# Altium footprint library smdchip.PcbLib: 57 footprints (part 1 of 4)
Each footprint in its own frame and in the unit in brackets; x right, y up, seen from the top. Pads: shape width x height; smd on the part's side, far side on the other; paste and mask are expansions set on the pad; w line width, h text height; cw(c..) or ccw(c..) is an arc to the next point about the centre after c.
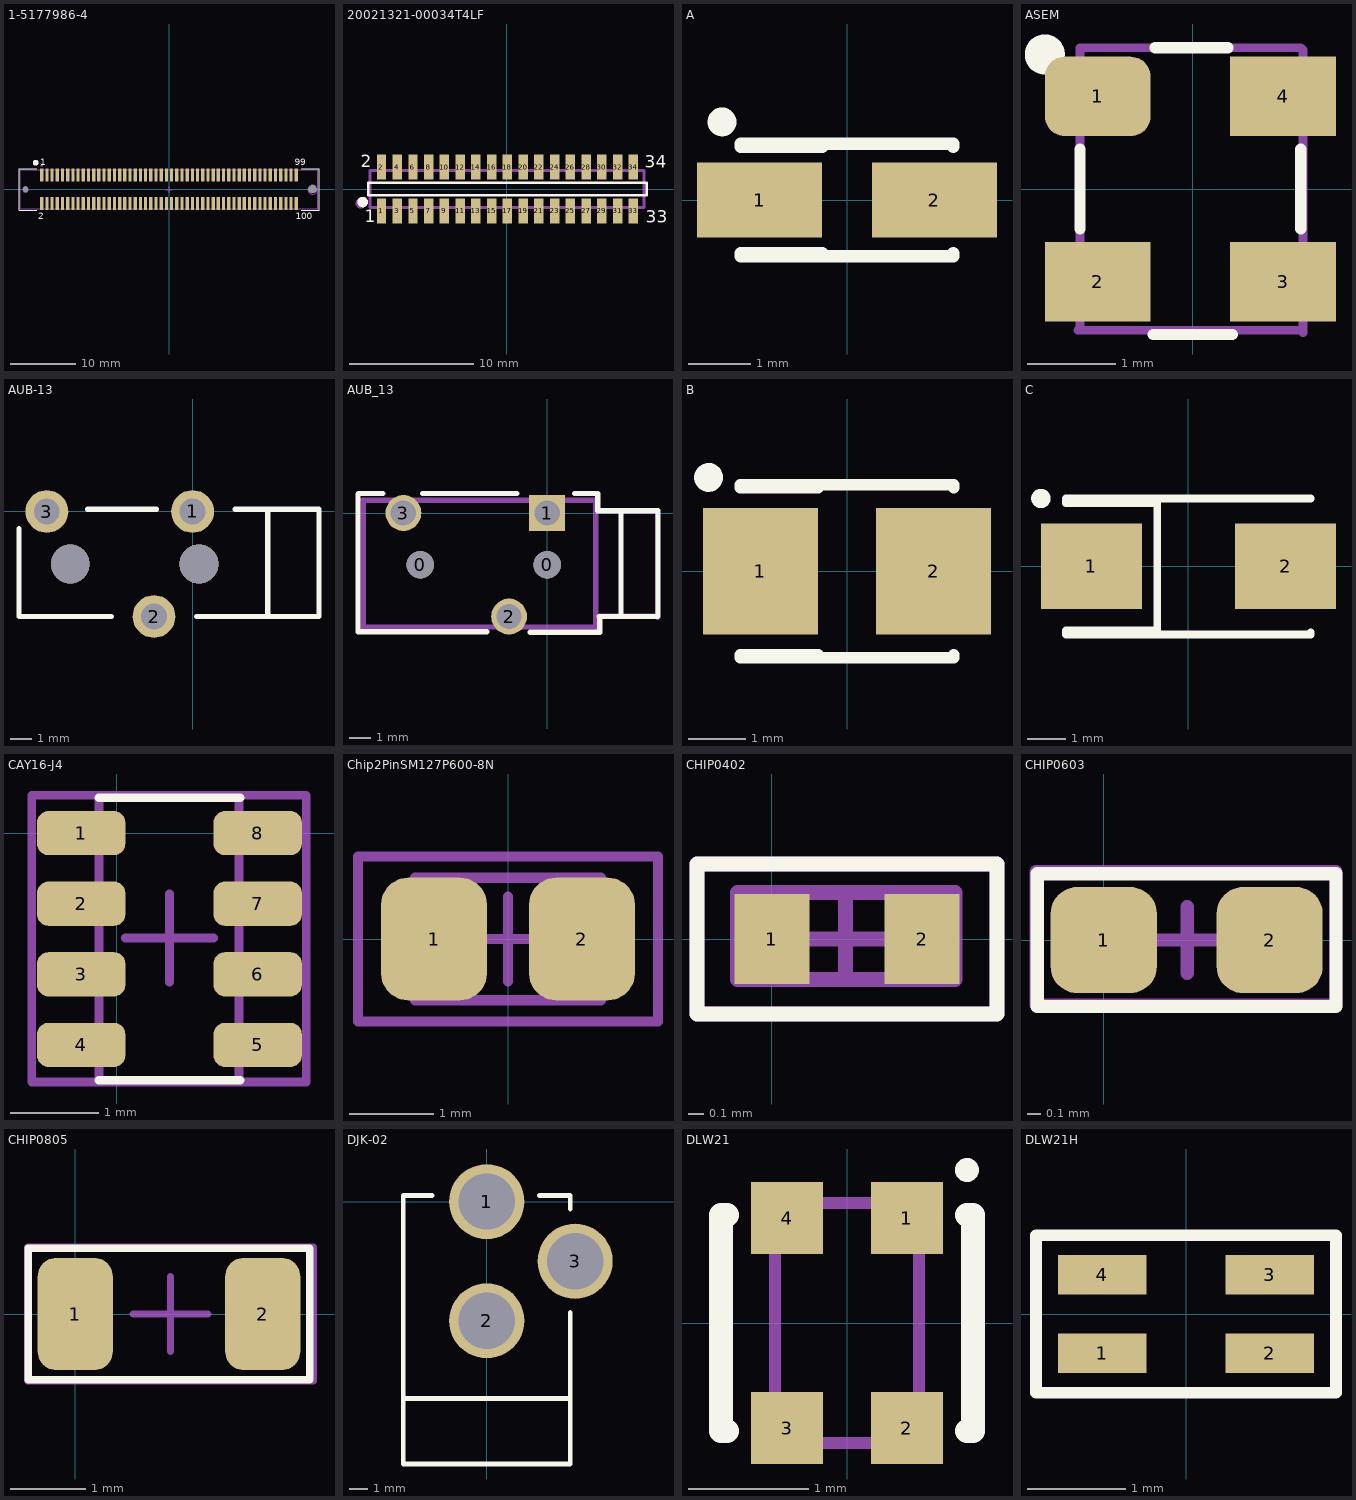
[diagram p0: the footprints below, top view; thin cyan lines are the x and y axes]

## 1-5177986-4 [mm]
height 5.6
pads (100):
  rect 0.5x2 smd: 1(-19.6,2.2) 2(-19.6,-2.2) 3(-18.8,2.2) 4(-18.8,-2.2) 5(-18,2.2) 6(-18,-2.2) 7(-17.2,2.2) 8(-17.2,-2.2) 9(-16.4,2.2) 10(-16.4,-2.2) 11(-15.6,2.2) 12(-15.6,-2.2) 13(-14.8,2.2) 14(-14.8,-2.2) 15(-14,2.2) 16(-14,-2.2) 17(-13.2,2.2) 18(-13.2,-2.2) 19(-12.4,2.2) 20(-12.4,-2.2) 21(-11.6,2.2) 22(-11.6,-2.2) 23(-10.8,2.2) 24(-10.8,-2.2) 25(-10,2.2) 26(-10,-2.2) 27(-9.2,2.2) 28(-9.2,-2.2) 29(-8.4,2.2) 30(-8.4,-2.2) 31(-7.6,2.2) 32(-7.6,-2.2) 33(-6.8,2.2) 34(-6.8,-2.2) 35(-6,2.2) 36(-6,-2.2) 37(-5.2,2.2) 38(-5.2,-2.2) 39(-4.4,2.2) 40(-4.4,-2.2) 41(-3.6,2.2) 42(-3.6,-2.2) 43(-2.8,2.2) 44(-2.8,-2.2) 45(-2,2.2) 46(-2,-2.2) 47(-1.2,2.2) 48(-1.2,-2.2) 49(-0.4,2.2) 50(-0.4,-2.2) 51(0.4,2.2) 52(0.4,-2.2) 53(1.2,2.2) 54(1.2,-2.2) 55(2,2.2) 56(2,-2.2) 57(2.8,2.2) 58(2.8,-2.2) 59(3.6,2.2) 60(3.6,-2.2) 61(4.4,2.2) 62(4.4,-2.2) 63(5.2,2.2) 64(5.2,-2.2) 65(6,2.2) 66(6,-2.2) 67(6.8,2.2) 68(6.8,-2.2) 69(7.6,2.2) 70(7.6,-2.2) 71(8.4,2.2) 72(8.4,-2.2) 73(9.2,2.2) 74(9.2,-2.2) 75(10,2.2) 76(10,-2.2) 77(10.8,2.2) 78(10.8,-2.2) 79(11.6,2.2) 80(11.6,-2.2) 81(12.4,2.2) 82(12.4,-2.2) 83(13.2,2.2) 84(13.2,-2.2) 85(14,2.2) 86(14,-2.2) 87(14.8,2.2) 88(14.8,-2.2) 89(15.6,2.2) 90(15.6,-2.2) 91(16.4,2.2) 92(16.4,-2.2) 93(17.2,2.2) 94(17.2,-2.2) 95(18,2.2) 96(18,-2.2) 97(18.8,2.2) 98(18.8,-2.2) 99(19.6,2.2) 100(19.6,-2.2)
via 22.1,0 diameter 1.2 hole 1.2
via -22.1,0 diameter 0.8 hole 0.8
Top Overlay:
  circle w0.44: c-20.524,4.1 r0.224
  lines w0.1: -20.4,-3.2 -23.1,-3.2 -23.1,3.2 -20.4,3.2 ; 20.4,-3.2 23.1,-3.2 23.1,3.2 20.4,3.2
  text "99" at 19.4,3.7 h1
  text "100" at 19.5,-4.6 h1
  text "2" at -20.1,-4.6 h1
  text "1" at -19.8,3.7 h1
Mechanical 13:
  circle w0.1: c22.1,-0.05 r0.7
  circle w0.1: c-22.1,-0.05 r0.4
Mechanical 15:
  circle w0.254: c-19.6,3.7 r0.1
  lines w0.1: -20.8,-3 -22.9,-3 ; -20.8,3 -22.9,3 ; -0.492,-0.05 0.508,-0.05 ; 0.008,-0.55 0.008,0.45 ; 20.8,-3 22.9,-3 ; 20.8,3 22.9,3 ; -22.9,-3 -22.9,3 ; -22.9,-3 22.9,-3 ; -22.9,3 22.9,3 ; 22.9,-3 22.9,3
3D body: height 5.6, standoff 0, extent -23.1,-3.3 23.1,3.1
3D body: height 1, standoff -0.5, extent 21.4,-0.75 22.8,0.65
3D body: height 1, standoff -0.5, extent -22.8,-0.725 -21.4,0.675

## 20021321-00034T4LF [mm] "Connector; Socket; 17x2 Position"
height 4.5
pads (34):
  rect 0.76x2.05 smd paste+0: 1(-10.11,-1.775) 2(-10.11,1.775) 3(-8.84,-1.775) 4(-8.84,1.775) 5(-7.57,-1.775) 6(-7.57,1.775) 7(-6.3,-1.775) 8(-6.3,1.775) 9(-5.03,-1.775) 10(-5.03,1.775) 11(-3.76,-1.775) 12(-3.76,1.775) 13(-2.49,-1.775) 14(-2.49,1.775) 15(-1.22,-1.775) 16(-1.22,1.775) 17(0.05,-1.775) 18(0.05,1.775) 19(1.32,-1.775) 20(1.32,1.775) 21(2.59,-1.775) 22(2.59,1.775) 23(3.86,-1.775) 24(3.86,1.775) 25(5.13,-1.775) 26(5.13,1.775) 27(6.4,-1.775) 28(6.4,1.775) 29(7.67,-1.775) 30(7.67,1.775) 31(8.94,-1.775) 32(8.94,1.775) 33(10.21,-1.775) 34(10.21,1.775)
Top Overlay:
  circle w0.4: c-11.624,-1.05 r0.224
  lines w0.2: -11.176,-0.508 -11.176,0.508 11.303,0.508 11.303,-0.508 -11.176,-0.508
  text "33" at 11.2,-2.725 h1
  text "1" at -11.475,-2.7 h1
  text "34" at 11.15,1.725 h1
  text "2" at -11.8,1.75 h1
Mechanical 15:
  circle w0.4: c-11.781,-1.143 r0.224
  lines w0.254: 11.03,-1.5 -11.03,-1.5 -11.03,1.5 11.03,1.5 ; 11.07,-1.5 11.07,1.5

## A [mm] "Capacitor, SM Tantalum; Body 3.2 x 1.6 mm (LxW typ)"
height 1.8
pads (2):
  rect 2x1.2 smd: 1(-1.4,0) 2(1.4,0)
Top Overlay:
  circle w0.254: c-2,1.25 r0.103
  lines w0.2: -1.7,-0.9 1.7,-0.9 1.7,-0.85 ; -1.7,-0.85 -0.4,-0.85 ; -1.7,0.85 -0.4,0.85 ; -1.7,0.9 1.7,0.9 1.7,0.85

## ASEM [mm]
height 0.85
pads (4):
  rrect50% 1.2x0.9 smd mask+0: 1(-1.075,1.05)
  rect 1.2x0.9 smd mask+0: 2(-1.075,-1.05) 3(1.025,-1.05) 4(1.025,1.05)
Top Overlay:
  circle w0.254: c-1.675,1.525 r0.1
  lines w0.127: -1.275,-0.45 -1.275,0.45 ; -0.45,-1.65 0.45,-1.65 ; -0.425,1.6 0.4,1.6 ; 1.225,-0.45 1.225,0.45
Mechanical 15:
  lines w0.1: -1.275,-1.6 -1.275,1.6 1.225,1.6 1.25,1.575 1.25,-1.625 1.225,-1.6 -1.3,-1.6 -1.275,-1.575
3D body: height 0.85, standoff 0, extent -1.275,-1.625 1.225,1.575

## AUB-13 [mm] "3.5mm audio jack, PTH on pcb, 3 contacts"
height 5
pads (3):
  round 2 hole 1.2: 1(0,0) 2(-1.8,-4.9) 3(-6.8,0)
via 0.3,-2.45 diameter 1.8 hole 1.8
via -5.7,-2.45 diameter 1.8 hole 1.8
Top Overlay:
  lines w0.254: -8.1,-0.8 -8.1,-4.9 -3.8,-4.9 ; -4.9,0.1 -1.7,0.1 ; 0.2,-4.9 5.9,-4.9 ; 2,0.1 5.9,0.1 5.9,-4.9 ; 3.5,0.1 3.5,-4.9 5.9,-4.9
3D body: height 5, standoff 0, extent -8.125,-4.975 5.925,0.075

## AUB_13 [mm] "3.5mm audio jack, PTH on pcb, 3 contacts"
height 5
pads (5):
  round 1.3 hole 1.3 unplated: 0(-6,-2.45) 0(0,-2.45)
  rect 1.7x1.7 hole 1.2: 1(0,0)
  round 1.7 hole 1.2: 2(-1.8,-4.9) 3(-6.8,0)
Top Overlay:
  lines w0.254: -7.775,0.925 -8.925,0.925 -8.95,0.9 -8.95,-5.625 -2.85,-5.625 ; -5.9,0.925 -1.425,0.925 ; -0.8,-5.65 2.5,-5.65 2.5,-4.925 ; 1.3,0.925 2.4,0.925 2.4,0.1 5.25,0.1 5.25,-4.9 3.5,-4.9 3.5,0.1 ; 2.475,-4.9 5.225,-4.9
Mechanical 15:
  lines w0.254: -8.725,0.6 2.275,0.6 ; -8.7,-5.4 -8.7,0.6 ; -8.675,-5.375 2.275,-5.401 ; 2.3,-5.4 2.3,0.6 ; 2.3,-4.875 5.225,-4.875 ; 2.3,0.1 5.2,0.1 ; 5.225,-4.925 5.225,0.05
3D body: height 5, standoff 0, extent -8.725,-5.375 5.2,0.6

## B [mm] "Capacitor, SM Tantalum; Body 3.5 x 2.8 mm (LxW typ)"
height 2.1
pads (2):
  rect 2x2.2 smd: 1(-1.5,0) 2(1.5,0)
Top Overlay:
  circle w0.25: c-2.4,1.625 r0.125
  lines w0.2: -1.85,-1.5 1.85,-1.5 1.85,-1.45 ; -1.85,-1.45 -0.5,-1.45 ; -1.85,1.45 -0.5,1.45 ; -1.85,1.5 1.85,1.5 1.85,1.45

## C [mm] "Capacitor, SM Tantalum; Body 6.0 x 3.2 mm (LxW typ)"
height 2.8
pads (2):
  rect 2.6x2.2 smd: 1(-2.5,0) 2(2.5,0)
Top Overlay:
  circle w0.25: c-3.8,1.75 r0.125
  lines w0.2: -3.15,-1.7 -3.15,-1.75 3.15,-1.75 3.15,-1.7 ; -3.15,-1.65 -0.9,-1.65 ; -3.15,1.625 -0.9,1.625 -0.775,1.75 3.15,1.75 -3.15,1.75 -3.15,1.7 ; -0.8,-1.75 -0.8,1.75

## CAY16-J4 [mm]
height 0.6
pads (8):
  rrect50% 1x0.5 smd: 1(-0.4,0) 2(-0.4,-0.8) 3(-0.4,-1.6) 4(-0.4,-2.4) 5(1.6,-2.4) 6(1.6,-1.6) 7(1.6,-0.8) 8(1.6,0)
Top Overlay:
  lines w0.1: -0.2,-2.8 1.4,-2.8 ; -0.2,0.4 1.4,0.4
Mechanical 13:
  lines w0.1: -0.2,-2.81 1.39,-2.81 1.39,0.43 -0.2,0.43 -0.2,-2.81
Mechanical 15:
  lines w0.1: 0.1,-1.19 1.1,-1.19 ; 0.6,-1.69 0.6,-0.69 ; -0.96,-2.82 2.15,-2.82 2.15,0.43 -0.96,0.43 -0.96,-2.82
3D body: height 0.7, standoff 0.1, extent -0.2,-2.81 1.39,0.43

## Chip2PinSM127P600-8N [mm]
height 1.05
pads (2):
  rrect50% 1.25x1.45 smd: 1(-0.875,0) 2(0.875,0)
Mechanical 13:
  lines w0.12: -1.1,-0.725 1.1,-0.725 1.1,0.725 -1.1,0.725 -1.1,-0.725
Mechanical 15:
  lines w0.12: -0.5,0 0.5,0 ; 0,-0.5 0,0.5 ; -1.775,-0.975 1.775,-0.975 1.775,0.975 -1.775,0.975 -1.775,-0.975
3D body: height 1.05, standoff 0, extent -1.1,-0.725 1.1,0.725

## CHIP0402 [mm]
height 0.5
pads (2):
  rect 0.5x0.6 smd: 1(0,0) 2(1,0)
Top Overlay:
  lines w0.1: -0.5,-0.5 -0.5,0.5 1.5,0.5 1.5,-0.5 -0.5,-0.5
Mechanical 13:
  lines w0.1: -0.23,-0.27 -0.23,0.31 1.22,0.31 1.22,-0.27 -0.23,-0.27
Mechanical 15:
  lines w0.1: 0.24,0 0.74,0 ; 0.49,-0.25 0.49,0.25 ; -0.5,-0.5 -0.5,0.5 1.5,0.5 1.5,-0.5 -0.5,-0.5
3D body: height 0.5, standoff 0.1, extent -0.23,-0.27 1.22,0.31

## CHIP0603 [mm]
height 0.7
pads (2):
  rrect50% 0.8x0.8 smd: 1(0,0) 2(1.25,0)
Top Overlay:
  lines w0.1: -0.5,-0.5 1.75,-0.5 1.75,0.5 -0.5,0.5 -0.5,-0.5
Mechanical 13:
  lines w0.1: -0.51,-0.49 1.75,-0.49 1.75,0.51 -0.51,0.51 -0.51,-0.49
Mechanical 15:
  lines w0.1: 0.38,0 0.88,0 ; 0.63,-0.25 0.63,0.25 ; -0.51,-0.49 1.75,-0.49 1.75,0.516 -0.51,0.516 -0.51,-0.49
3D body: height 0.7, standoff 0.1, extent -0.525,-0.5 1.75,0.51

## CHIP0805 [mm]
height 1
pads (2):
  rrect50% 1x1.5 smd: 1(0,0) 2(2.5,0)
Top Overlay:
  lines w0.1: -0.625,-0.875 -0.625,0.875 3.125,0.875 3.125,-0.875 -0.625,-0.875
Mechanical 13:
  lines w0.1: -0.635,-0.889 3.175,-0.889 3.175,0.889 -0.635,0.889 -0.635,-0.889
Mechanical 15:
  lines w0.1: 0.77,0 1.77,0 ; 1.27,-0.5 1.27,0.5 ; -0.635,-0.889 3.175,-0.889 3.175,0.889 -0.635,0.889 -0.635,-0.889
3D body: height 1, standoff 0.1, extent -0.635,-0.889 3.175,0.889

## DJK-02 [mm]
pads (3):
  round 4 hole 3: 1(0,0) 2(0,-6.35) 3(4.7,-3.175)
Top Overlay:
  lines w0.254: -4.445,-10.477 4.445,-10.477 ; -2.9,0.318 -4.445,0.318 -4.445,-13.97 1.27,-13.97 ; 0.318,-13.97 1.27,-13.97 ; 2.8,0.318 4.445,0.318 4.445,-0.4 ; 4.445,-5.9 4.445,-13.97 1.27,-13.97

## DLW21 [mm]
height 1
pads (4):
  rect 0.6x0.6 smd: 1(0.5,0.875) 2(0.5,-0.875) 3(-0.5,-0.875) 4(-0.5,0.875)
Top Overlay:
  circle w0.1: c1,1.275 r0.05
  lines w0.2: -1,-0.9 -1.05,-0.9 -1.05,0.9 -1,0.9 ; 1,-0.9 1.05,-0.9 1.05,0.9 1,0.9
Mechanical 15:
  lines w0.1: -0.6,-1 -0.6,1 0.6,1 0.6,-1 -0.6,-1

## DLW21H [mm] "DLW21H Series Murata"
height 1
pads (4):
  rect 0.9x0.4 smd mask+0.05: 1(-0.85,-0.4) 2(0.85,-0.4) 3(0.85,0.4) 4(-0.85,0.4)
Top Overlay:
  lines w0.12: -1.524,-0.8 1.524,-0.8 1.524,0.8 -1.524,0.8 -1.524,-0.8
3D body: height 1, standoff 0, extent -1,-0.6 1,0.6